# Altium schematic symbol library GENERIC_GRAPHIC.SchLib: 1 symbol
Pins are listed as number, name and electrical type; pins without a type are passive.

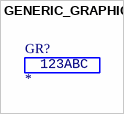
[diagram p0: symbol GENERIC_GRAPHIC]

## GENERIC_GRAPHIC
designator GR?  (no BOM)
text: 123ABC